# Altium schematic symbol library SCH - POWER - LINEAR VREG - ABLIC S-1172 6-HSOP.SCHLIB: 1 symbol
Pins are listed as number, name and electrical type; pins without a type are passive.

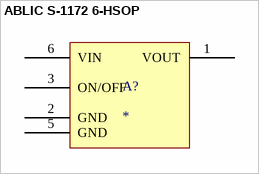
[diagram p0: symbol ABLIC S-1172 6-HSOP]

## ABLIC S-1172 6-HSOP
designator A?
pins: 1 VOUT, 2 GND, 3 ON/OFF, 5 GND, 6 VIN